# Altium footprint library KN2CLib.PcbLib: 180 footprints (part 5 of 12)
Each footprint in its own frame and in the unit in brackets; x right, y up, seen from the top. Pads: shape width x height; smd on the part's side, far side on the other; paste and mask are expansions set on the pad; w line width, h text height; cw(c..) or ccw(c..) is an arc to the next point about the centre after c.
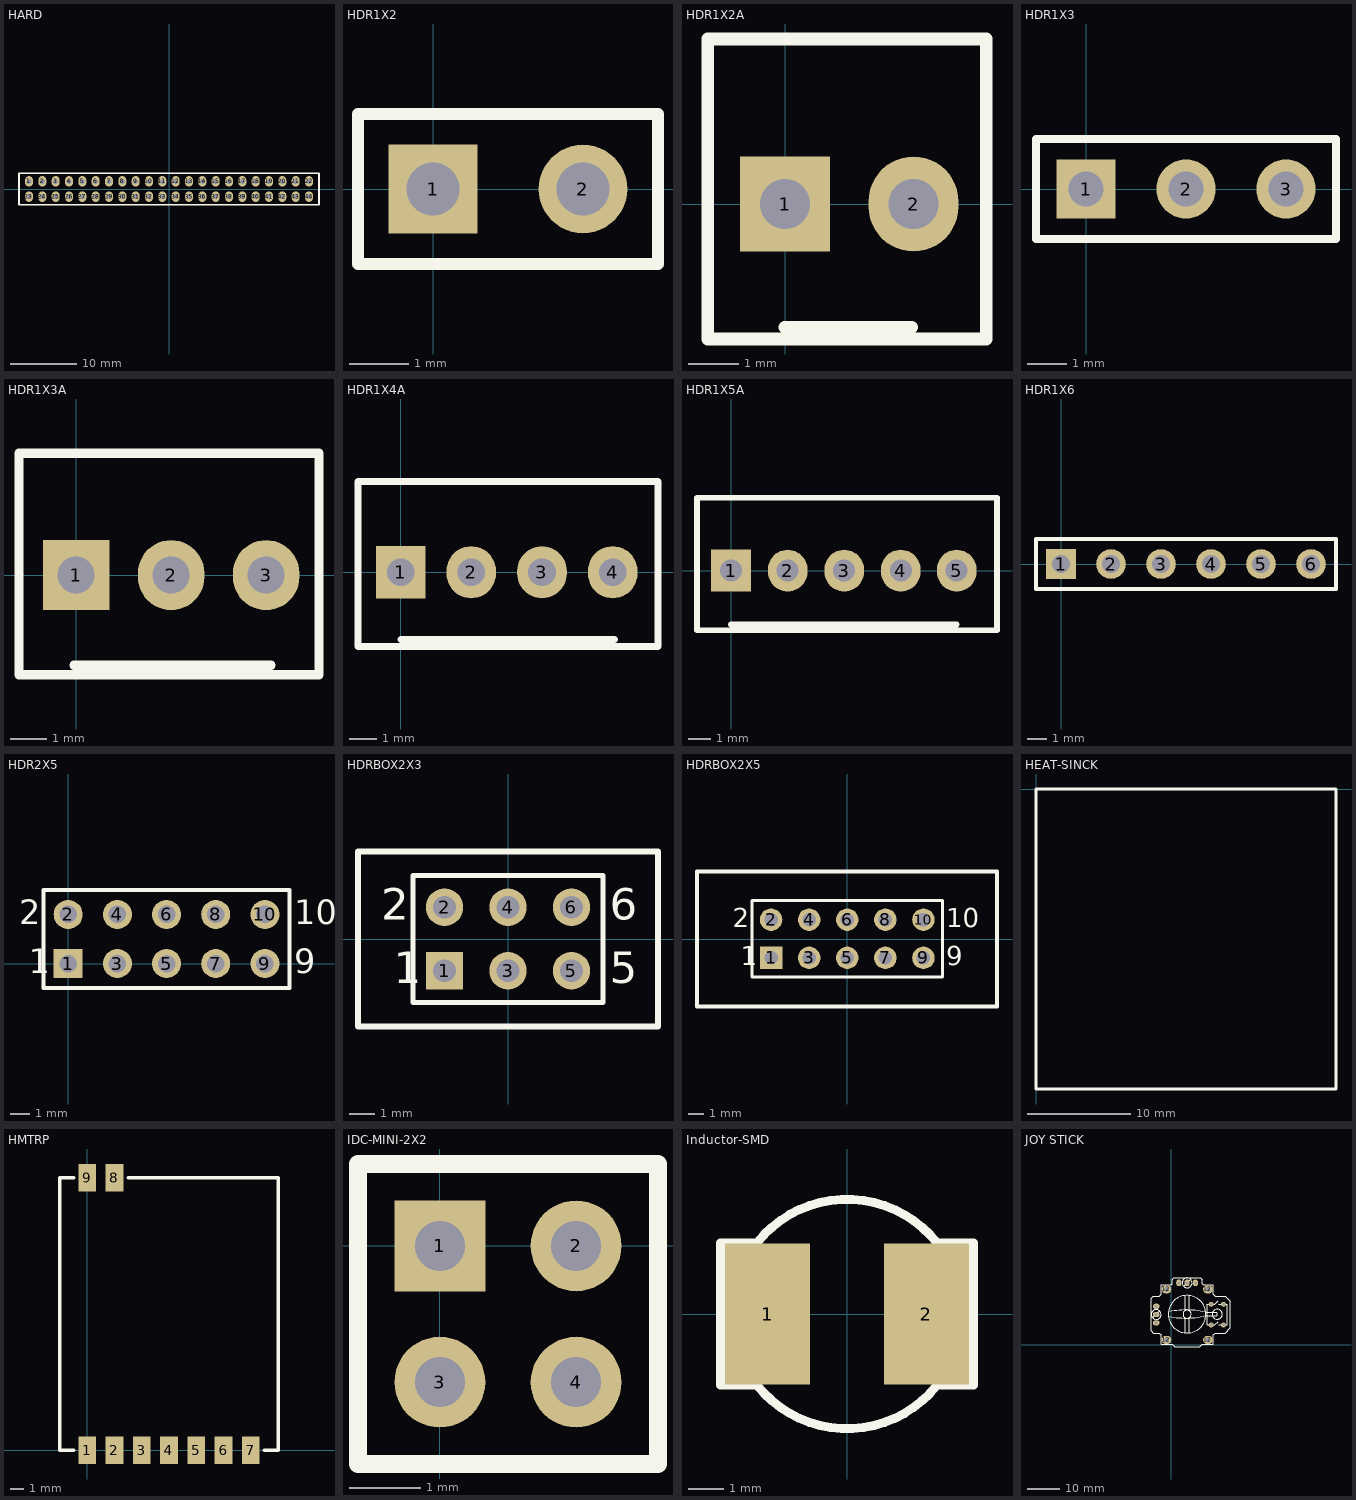
[diagram p4: the footprints below, top view; thin cyan lines are the x and y axes]

## HARD [mm]
pads (44):
  oval 1.2x1.6 hole 0.762: 1(-21,1.15) 2(-19,1.15) 3(-17,1.15) 4(-15,1.15) 5(-13,1.15) 6(-11,1.15) 7(-9,1.15) 8(-7,1.15) 9(-5,1.15) 10(-3,1.15) 11(-1,1.15) 12(1,1.15) 13(3,1.15) 14(5,1.15) 15(7,1.15) 16(9,1.15) 17(11,1.15) 18(13,1.15) 19(15,1.15) 20(17,1.15) 21(19,1.15) 22(21,1.15) 23(-21,-1.15) 24(-19,-1.15) 25(-17,-1.15) 26(-15,-1.15) 27(-13,-1.15) 28(-11,-1.15) 29(-9,-1.15) 30(-7,-1.15) 31(-5,-1.15) 32(-3,-1.15) 33(-1,-1.15) 34(1,-1.15) 35(3,-1.15) 36(5,-1.15) 37(7,-1.15) 38(9,-1.15) 39(11,-1.15) 40(13,-1.15) 41(15,-1.15) 42(17,-1.15) 43(19,-1.15) 44(21,-1.15)
Top Overlay:
  lines w0.254: -22.5,-2.35 -22.5,2.35 22.5,2.35 22.5,-2.35 -22.5,-2.35

## HDR1X2 [mm] "Connector; Header; 2 Position"
height 1.75
pads (2):
  rect 1.5x1.5 hole 0.9: 1(0,0)
  round 1.5 hole 0.9: 2(2.54,0)
Top Overlay:
  lines w0.2: -1.27,-1.27 3.81,-1.27 3.81,1.27 -1.27,1.27 -1.27,-1.27
3D body: height 4, standoff 0, extent -1.375,-1.375 3.9,1.375

## HDR1X2A [mm]
pads (2):
  rect 1.8x1.9 hole 1: 1(0,0)
  oval 1.8x1.9 hole 1: 2(2.57,0)
Top Overlay:
  lines w0.254: -0.005,-2.464 2.53,-2.464 ; -1.545,-2.7 -1.545,3.3 4.02,3.3 4.02,-2.7 -1.545,-2.7
3D body: height 4, standoff 0, extent -1.45,-2.575 3.9,3.2

## HDR1X3 [mm] "Connector; Header; 3 Position"
height 4.69
pads (3):
  rect 1.5x1.5 hole 0.9: 1(0,0)
  round 1.5 hole 0.9: 2(2.54,0) 3(5.08,0)
Top Overlay:
  lines w0.2: -1.27,-1.27 6.35,-1.27 6.35,1.27 -1.27,1.27 -1.27,-1.27

## HDR1X3A [mm]
pads (3):
  rect 1.8x1.9 hole 1: 1(0,0)
  oval 1.8x1.9 hole 1: 2(2.57,0) 3(5.14,0)
Top Overlay:
  lines w0.254: -0.058,-2.441 5.273,-2.441 ; -1.545,-2.7 -1.545,3.3 6.57,3.3 6.57,-2.7 -1.545,-2.7
3D body: height 4, standoff 0, extent -1.425,-2.55 6.45,3.15

## HDR1X4A [mm]
pads (4):
  rect 1.8x1.9 hole 1: 1(0,0)
  oval 1.8x1.9 hole 1: 2(2.57,0) 3(5.14,0) 4(7.71,0)
Top Overlay:
  lines w0.254: 0.01,-2.449 7.767,-2.449 ; -1.545,-2.7 9.355,-2.7 9.355,3.3 -1.545,3.3 -1.545,-2.7
3D body: height 4, standoff 0, extent -1.425,-2.55 9.225,3.15

## HDR1X5A [mm]
pads (5):
  rect 1.8x1.9 hole 1: 1(0,0)
  oval 1.8x1.9 hole 1: 2(2.57,0) 3(5.14,0) 4(7.71,0) 5(10.25,0)
Top Overlay:
  lines w0.254: 0,-2.449 10.25,-2.449 ; -1.545,-2.7 -1.545,3.3 12.08,3.3 12.08,-2.7 -1.545,-2.7
3D body: height 4, standoff 0, extent -1.425,-2.575 11.95,3.175

## HDR1X6 [mm] "Connector; Header; 6 Position"
height 2.54
pads (6):
  rect 1.5x1.5 hole 0.9: 1(0,0)
  round 1.5 hole 0.9: 2(2.54,0) 3(5.08,0) 4(7.62,0) 5(10.16,0) 6(12.7,0)
Top Overlay:
  lines w0.2: -1.27,-1.27 13.97,-1.27 13.97,1.27 -1.27,1.27 -1.27,-1.27
3D body: height 4, standoff 0, extent -1.25,-1.275 14,1.25

## HDR2X5 [mm] "Connector; Header; 5x2 Position"
pads (10):
  rect 1.5x1.5 hole 0.9: 1(0,0)
  round 1.5 hole 0.9: 2(0,2.54) 3(2.54,0) 4(2.54,2.54) 5(5.08,0) 6(5.08,2.54) 7(7.62,0) 8(7.62,2.54) 9(10.16,0) 10(10.16,2.54)
Top Overlay:
  lines w0.2: -1.27,-1.27 -1.27,3.81 11.43,3.81 11.43,-1.27 -1.27,-1.27
  text "2" at -2.54,2.032 h1.27
  text "1" at -2.032,-0.508 h1.27
  text "9" at 11.684,-0.508 h1.27
  text "10" at 11.684,2.032 h1.27
3D body: height 4, standoff 0, extent -1.275,-1.25 11.45,3.8

## HDRBOX2X3 [mm]
pads (6):
  rect 1.5x1.5 hole 0.9: 1(-2.54,-1.27)
  round 1.5 hole 0.9: 2(-2.54,1.27) 3(0,-1.27) 4(0,1.27) 5(2.54,-1.27) 6(2.54,1.27)
Top Overlay:
  lines w0.2: -1.058,-2.54 3.81,-2.54 ; 3.81,-2.54 -3.81,-2.54 -3.81,2.54 3.81,2.54 3.81,-2.54
  lines w0.254: -6,-3.5 6,-3.5 6,3.5 -6,3.5 -6,-3.5
  text "1" at -4.572,-1.778 h1.27
  text "2" at -5.08,0.762 h1.27
  text "5" at 4.064,-1.778 h1.27
  text "6" at 4.064,0.762 h1.27
3D body: height 4, standoff 0, extent -6,-3.525 6,3.475

## HDRBOX2X5 [mm]
pads (10):
  rect 1.5x1.5 hole 0.9: 1(-5.062,-1.254)
  round 1.5 hole 0.9: 2(-5.062,1.286) 3(-2.522,-1.254) 4(-2.522,1.286) 5(0.018,-1.254) 6(0.018,1.286) 7(2.558,-1.254) 8(2.558,1.286) 9(5.098,-1.254) 10(5.098,1.286)
Top Overlay:
  lines w0.2: -6.332,-2.524 -6.332,2.556 6.368,2.556 6.368,-2.524 -6.332,-2.524
  lines w0.254: -10,-4.5 -10,4.5 10,4.5 10,-4.5 -10,-4.5
  text "2" at -7.602,0.778 h1.27
  text "1" at -7.094,-1.762 h1.27
  text "9" at 6.622,-1.762 h1.27
  text "10" at 6.622,0.778 h1.27
3D body: height 4, standoff 0, extent -10.025,-4.525 -9.975,4.45

## HEAT-SINCK [mm]
Top Overlay:
  lines w0.254: 0,-29.21 0,0 29.21,0 29.21,-29.21 0,-29.21
3D body: height 10.16, standoff 0, extent 26.797,-29.21 28.448,0
3D body: height 10.16, standoff 0, extent 23.495,-29.21 25.146,0
3D body: height 10.16, standoff 0, extent 20.193,-29.21 21.844,0
3D body: height 10.16, standoff 0, extent 16.891,-29.21 18.542,0
3D body: height 10.16, standoff 0, extent 13.589,-29.21 15.24,0
3D body: height 10.16, standoff 0, extent 10.287,-29.21 11.938,0
3D body: height 10.16, standoff 0, extent 6.985,-29.21 8.636,0
3D body: height 10.16, standoff 0, extent 3.683,-29.21 5.334,0
3D body: height 10.16, standoff 0, extent 0.381,-29.21 2.032,0
3D body: height 2.79, standoff 0, extent 0,-29.21 29.21,0

## HMTRP [mm]
pads (9):
  rect 1.3x2 smd: 1(0,0) 2(2,0) 3(4,0) 4(6,0) 5(8,0) 6(10,0) 7(12,0) 8(2,20) 9(0,20)
Top Overlay:
  lines w0.254: -1,0 -2,0 -2,20 -1,20 ; 3,20 14,20 14,0 13,0
3D body: height 2, standoff 0, extent -1.981,0.051 14.046,20.041

## IDC-MINI-2X2 [mm]
pads (4):
  rect 1.27x1.27 hole 0.7: 1(0,0)
  round 1.27 hole 0.7: 2(1.905,0) 3(0,-1.905) 4(1.905,-1.905)
Top Overlay:
  lines w0.254: -1.143,-3.048 3.048,-3.048 3.048,1.143 -1.143,1.143 -1.143,-3.048

## Inductor-SMD [mm] "100uH"
pads (2):
  rect 2.4x4 smd: 1(-2.25,0) 2(2.25,0)
Top Overlay:
  lines w0.254: -3.581,-0.025 -3.581,2.007 -2.565,2.007 ; -3.581,0.025 -3.581,-2.007 -2.565,-2.007 ; -2.56,-2.002 ccw(c0,0) 2.557,-2.006 ; -2.557,2.006 cw(c0,0) 2.56,2.002 ; 2.565,-2.007 3.581,-2.007 3.581,0.025 ; 2.565,2.007 3.581,2.007 3.581,-0.025
3D body: height 3.5, standoff 0, extent -3.224,-3.244 3.25,3.244

## JOY STICK [mm]
pads (14):
  oval 2x1.6 hole 0.9: 1(-4.69,6.703) 2(-4.69,9.243) 3(-4.69,11.783)
  oval 1.6x2 hole 0.9: 4(2.259,18.986) 5(4.799,18.986) 6(7.339,18.986)
  round 1.524 hole 0.762: 7(15.968,6.06) 7(15.968,12.41) 8(12.158,6.06) 8(12.158,12.41)
  oval 3x2.5 hole 1.5: 12(-1.563,1.486) 12(-1.563,16.986) 12(11.158,1.486) 12(11.158,16.986)
Top Overlay:
  circle w0.254: c14.053,9.366 r1.529
  circle w0.254: c4.787,9.366 r5.75
  lines w0.254: -6.262,9.186 -6.262,14.247 -5.623,14.886 -3.801,14.886 -3.201,15.486 -3.201,18.386 -0.101,18.386 0.199,18.686 0.199,19.986 0.755,20.542 4.993,20.542 8.881,20.542 9.437,19.986 9.437,18.686 9.737,18.386 12.837,18.386 12.837,15.486 13.437,14.886 16.537,14.886 18.085,13.338 18.085,9.834 18.085,5.148 16.537,3.6 13.437,3.6 12.837,3 12.837,0.1 ; -6.262,9.3 -6.262,4.239 -5.623,3.6 -3.801,3.6 -3.201,3 -3.201,0.1 0.266,0.1 1.033,-0.667 8.604,-0.667 9.37,0.1 ; -5.754,8.223 -3.722,10.255 -3.595,10.255 ; -4.69,11.783 -4.361,11.783 ; -3.183,9.381 ccw(c-4.69,9.243) -3.177,9.239 ; -0.924,8.786 ccw(c4.389,31.799) 10.502,8.985 ; -0.797,10.074 cw(c4.516,-12.939) 10.43,9.927 13.859,9.927 cw(c13.297,9.42) 13.804,8.858 10.629,8.858 ; 3.735,17.966 5.767,19.998 ; 4.152,3.778 4.152,8.096 ; 4.152,10.636 4.152,14.954 ; 5.422,3.778 5.422,8.096 ; 5.422,10.636 5.422,14.954 ; 6.018,9.59 ccw(c4.787,9.366) 6.025,9.543 ; 6.306,19.124 ccw(c4.799,18.986) 6.313,18.982 ; 14.312,7.08 13.292,6.06 10.973,6.06 10.973,12.41 13.292,12.41 14.312,13.43 ; 14.439,12.414 14.443,12.41 17.069,12.41 17.069,6.06 14.443,6.06 ; 9.37,0.1 12.837,0.1 ; 9.37,0.1 12.837,0.1 ; 9.37,0.1 12.837,0.1